# Altium schematic symbol library Schlib1.SchLib: 22 symbols
Pins are listed as number, name and electrical type; pins without a type are passive.

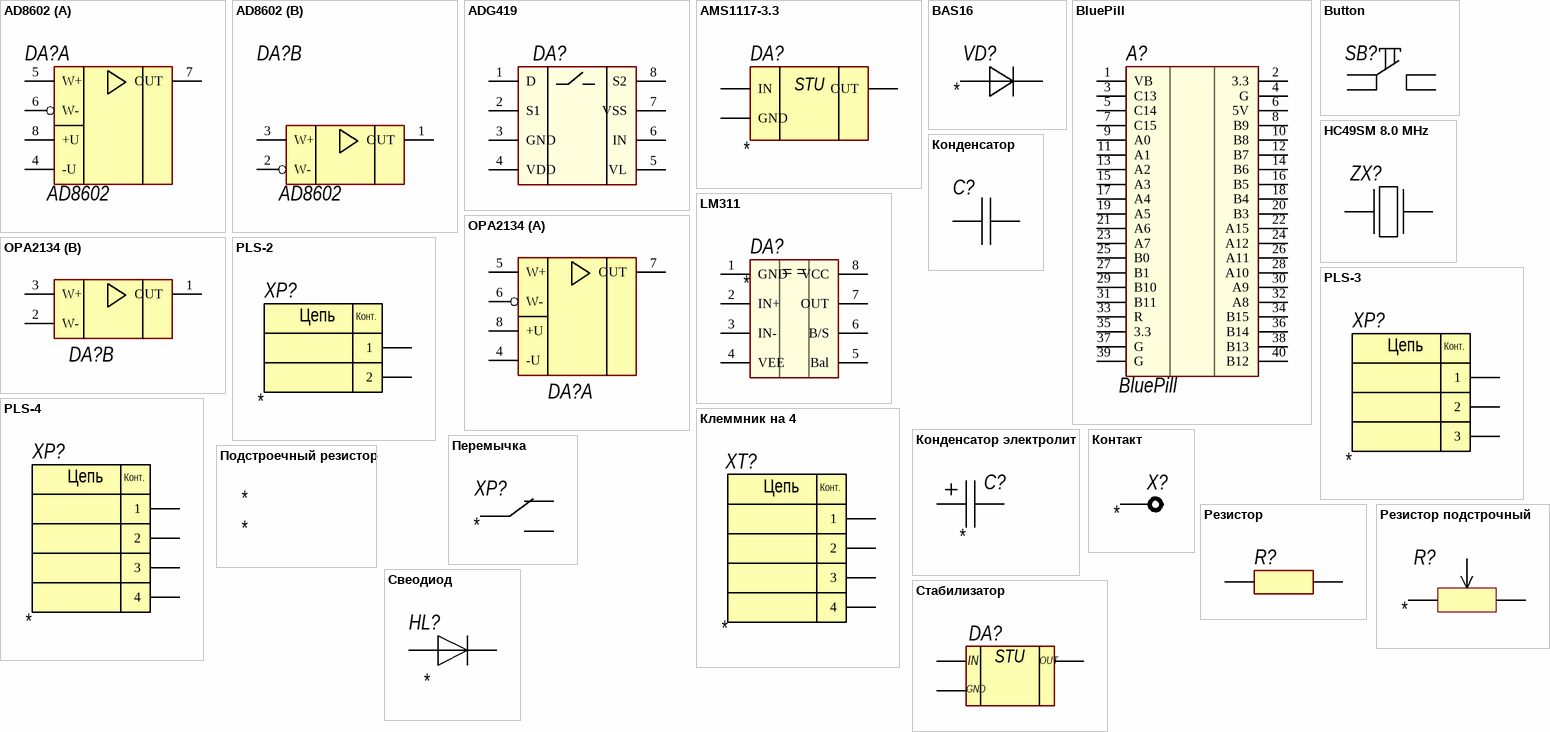
[diagram p0: symbols AD8602 to Стабилизатор]

## AD8602
designator DA?
footprint SC_SOIC8 (8-Pin Small Outline Integrated Circuit 1.27 mm Pitch, IPC High Density)
part A pins: 4 -U, 5 W+, 6 W-, 7 OUT, 8 +U
part B pins: 1 OUT, 2 W-, 3 W+

## ADG419
designator DA?  (value not drawn)
footprint SC_SOIC8 (8-Pin Small Outline Integrated Circuit 1.27 mm Pitch, IPC High Density)
pins: 1 D, 2 S1, 3 GND, 4 VDD, 5 VL, 6 IN, 7 VSS, 8 S2

## AMS1117-3.3
designator DA?
pins: 1 GND, 2 OUT, 3 IN
text: STU

## BAS16
designator VD?
pins: 1, 3

## BluePill
designator A?
footprint BluePill
pins: 1 VB, 2 3.3, 3 C13, 4 G, 5 C14, 6 5V, 7 C15, 8 B9, 9 A0, 10 B8, 11 A1, 12 B7, 13 A2, 14 B6, 15 A3, 16 B5, 17 A4, 18 B4, 19 A5, 20 B3, 21 A6, 22 A15, 23 A7, 24 A12, 25 B0, 26 A11, 27 B1, 28 A10, 29 B10, 30 A9, 31 B11, 32 A8, 33 R, 34 B15, 35 3.3, 36 B14, 37 G, 38 B13, 39 G, 40 B12

## Button
designator SB?  (value not drawn)
footprint Кнопка
pins: 1, 2, 3, 4

## HC49SM 8.0 MHz
designator ZX?, comment ZX?  (value not drawn)
footprint HC-49SM
pins: 1, 2

## LM311
designator DA?
footprint SC_SOIC8 (8-Pin Small Outline Integrated Circuit 1.27 mm Pitch, IPC High Density)
pins: 1 GND, 2 IN+, 3 IN-, 4 VEE, 5 Bal, 6 B/S, 7 OUT, 8 VCC

## OPA2134
designator DA?  (value not drawn)
footprint SC_SOIC8 (8-Pin Small Outline Integrated Circuit 1.27 mm Pitch, IPC High Density)
part A pins: 4 -U, 5 W+, 6 W-, 7 OUT, 8 +U
part B pins: 1 OUT, 2 W-, 3 W+

## PLS-2
designator XP?
footprint PLS2
pins: 1, 2
text: Цепь; Конт.

## PLS-3
designator XP?
footprint PLS3
pins: 1, 2, 3
text: Цепь; Конт.

## PLS-4
designator XP?
footprint PLS4
pins: 1, 2, 3, 4
text: Цепь; Конт.

## Клеммник на 4
designator XT?
footprint Клеммник на 4
pins: 1, 2, 3, 4
text: Цепь; Конт.

## Конденсатор
designator C?  (value not drawn)
footprint CA_0805
pins: 1, 2

## Конденсатор электролит
designator C?
footprint CAP ALSMD 4.3MM H5.4MM (Aluminum Electrolytic Capacitor, Body 4.30x4.30x5.40mm, IPC Low Density)
footprint CAP ALSMD 5.3MM H5.4MM (Aluminum Electrolytic Capacitor, Body 5.30x5.30x5.40mm, IPC Low Density)
pins: 1, 2

## Контакт
designator X?
footprint PCBComponent_1
pins: 1

## Перемычка
designator XP?
footprint PLS3
pins: 1, 2, 3

## Подстроечный резистор
designator *

## Резистор
designator R?  (value not drawn)
footprint RE_0805
pins: 1, 2

## Резистор подстрочный
designator R?
footprint 3*1
pins: 1, 2, 3

## Свеодиод
designator HL?
footprint DI_LED_0805 (LD_0805_VAC)
pins: 1, 2

## Стабилизатор
designator DA?  (value not drawn)
footprint Стабилизатор
pins: 1 IN, 2 GND, 3 OUT
text: STU